# Altium footprint library 农联网.PcbLib: 38 footprints (part 3 of 3)
Each footprint in its own frame and in the unit in brackets; x right, y up, seen from the top. Pads: shape width x height; smd on the part's side, far side on the other; paste and mask are expansions set on the pad; w line width, h text height; cw(c..) or ccw(c..) is an arc to the next point about the centre after c.
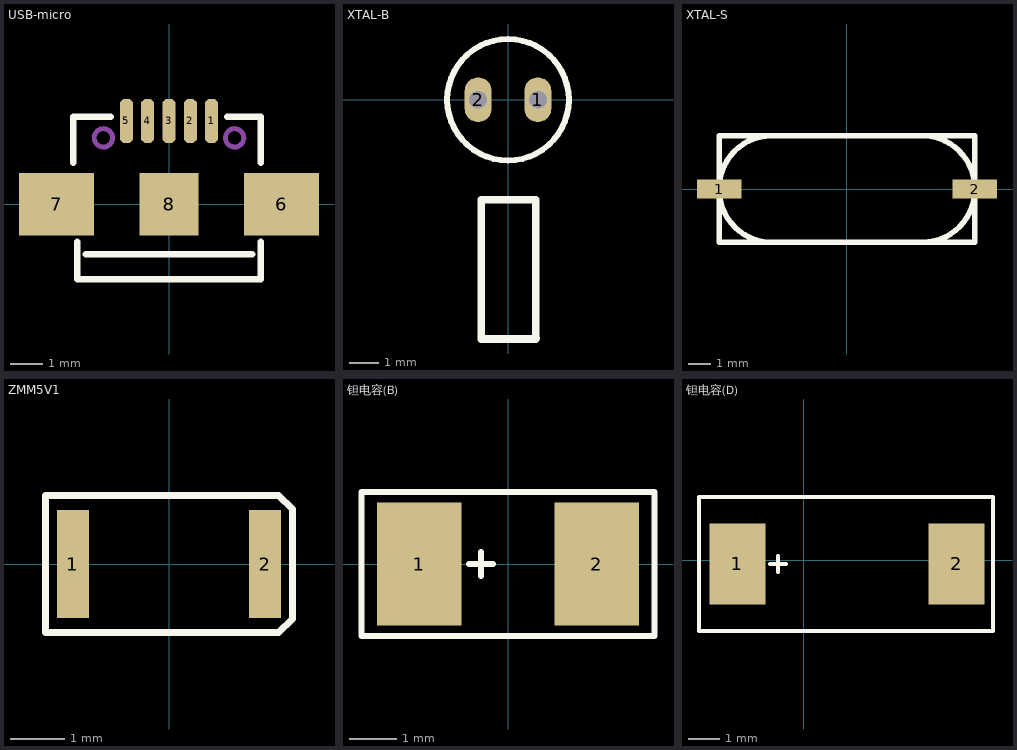
[diagram p2: the footprints below, top view; thin cyan lines are the x and y axes]

## USB-micro [mm]
pads (8):
  oct 0.4x1.35 smd: 1(1.3,2.54) 2(0.65,2.54) 3(0,2.54) 4(-0.65,2.54) 5(-1.3,2.54)
  rect 2.286x1.9 smd: 6(3.429,0) 7(-3.429,0)
  rect 1.8x1.9 smd: 8(0,0)
Top Overlay:
  lines w0.2: -2.921,1.27 -2.921,2.667 -1.778,2.667 ; -2.794,-1.143 -2.794,-2.286 2.794,-2.286 2.794,-1.143 ; -2.54,-1.524 2.54,-1.524 ; 1.778,2.667 2.794,2.667 2.794,1.27
Mechanical 1:
  circle w0.15: c2,2.023 r0.28
  circle w0.15: c-2,2.023 r0.28

## XTAL-B [mm]
pads (2):
  oval 0.9x1.5 hole 0.6: 1(1,0) 2(-1,0)
Top Overlay:
  circle w0.2: c0,0 r2.032
  lines w0.254: 0.95,-7.975 0.925,-8 ; 0.925,-8 0.925,-3.35 -0.9,-3.35 -0.9,-8 0.925,-8

## XTAL-S [mm]
pads (2):
  rect 2x0.85 smd: 1(-5.75,0) 2(5.75,0)
Top Overlay:
  lines w0.254: -5.75,-0.069 -5.75,0 ; -5.75,-0.068 ccw(c-3.385,-0.035) -3.352,-2.4 ; -5.75,0.002 cw(c-3.385,0.035) -3.418,2.4 ; 3.352,2.4 cw(c3.385,0.035) 5.75,0.068 ; 3.418,-2.4 ccw(c3.385,-0.035) 5.75,-0.002 ; 5.75,0 5.75,0.069 ; -5.75,-2.4 -5.75,2.4 5.75,2.4 5.75,-2.4 -5.75,-2.4

## ZMM5V1 [mm]
pads (2):
  rect 0.6x2 smd: 1(-1.778,0) 2(1.778,0)
Top Overlay:
  lines w0.127: -2.286,-1.27 2.032,-1.27 2.286,-1.016 2.286,1.016 2.032,1.27 -2.286,1.27 -2.286,-1.27

## 钽电容(B) [mm]
pads (2):
  rect 1.8x2.6 smd: 1(-1.882,0) 2(1.882,0)
Top Overlay:
  lines w0.127: -0.826,0 -0.318,0 ; -0.572,-0.254 -0.572,0.254 ; -3.111,-1.524 3.111,-1.524 3.111,1.524 -3.111,1.524 -3.111,-1.524

## 钽电容(D) [mm]
pads (2):
  rect 1.8x2.6 smd: 1(-2.136,-0.127) 2(4.93,-0.127)
Top Overlay:
  lines w0.127: -1.079,-0.127 -0.572,-0.127 ; -0.826,-0.381 -0.826,0.127 ; -3.365,-2.286 6.096,-2.286 6.096,2.032 -3.365,2.032 -3.365,-2.286